# EAGLE library part BMP280 (library Arduino-MITCH_Breakouts)
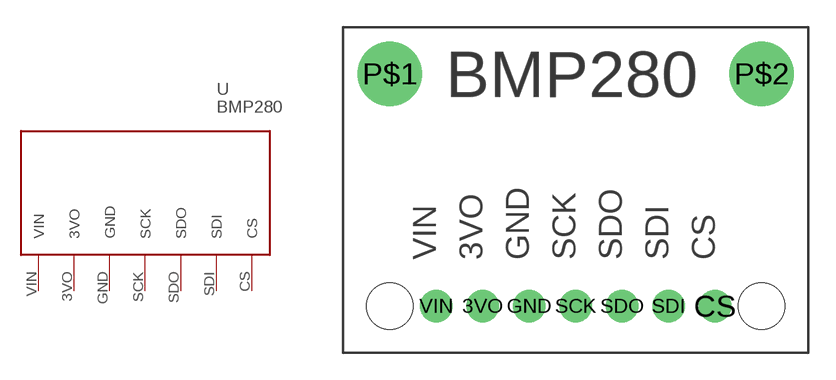
[diagram p0: symbol with the pads of BMP280; footprint BMP280]

Designator prefix -

## BMP280  [BMP280]
3VO  3VO
CS  CS
GND  GND
SCK  SCK
SDI  SDI
SDO  SDO
VIN  VIN

## Footprint BMP280 (pad centres in mm)
drill 0.991 pad 1.778: 3VO 7.62,2.54; CS 20.32,2.54; GND 10.16,2.54; SCK 12.7,2.54; SDI 17.78,2.54; SDO 15.24,2.54; VIN 5.08,2.54
drill 2.489 pad 3.302: P$1 2.54,15.24; P$2 22.86,15.24
hole 2.54 at 2.54,2.54
hole 2.54 at 22.86,2.54